# Altium footprint library SDR2207-101KL.PcbLib: 1 footprints
Each footprint in its own frame and in the unit in brackets; x right, y up, seen from the top. Pads: shape width x height; smd on the part's side, far side on the other; paste and mask are expansions set on the pad; w line width, h text height; cw(c..) or ccw(c..) is an arc to the next point about the centre after c.
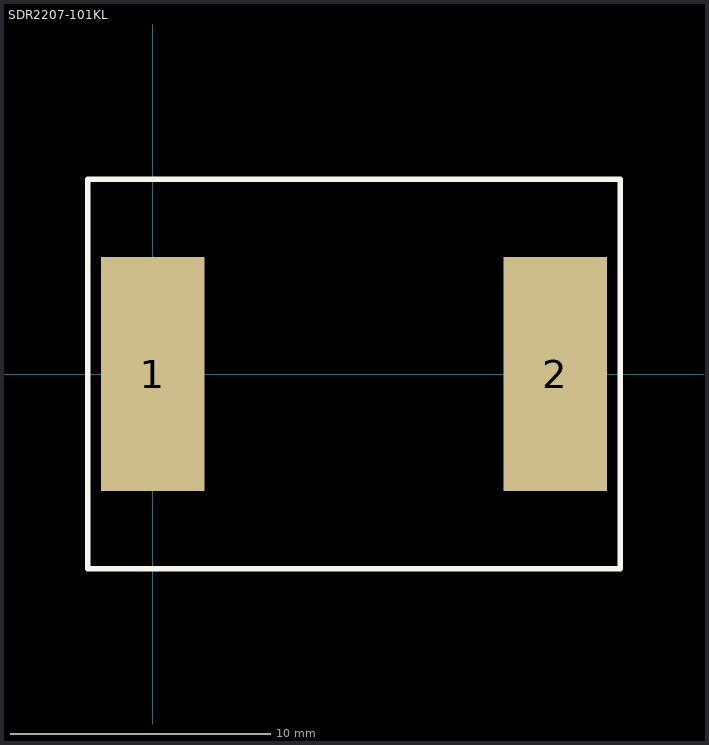
[diagram p0: the footprint, top view; thin cyan lines are the x and y axes]

## SDR2207-101KL [mm] "Dimension 15x22x7 [mm]"
height 0.178
pads (2):
  rect 4x9 smd: 1(0,0) 2(15.5,0)
Top Overlay:
  lines w0.2: -2.5,-7.5 18,-7.5 18,7.5 -2.5,7.5 -2.5,0 -2.5,-7.5